# EAGLE library part EAGLELIBRARY_WUERTH_ELEKTRONIK_EISOS_REV16A_WE-TVS_824013 (library VGA_sound)
TVS Diode High Speed Series Characteristics Low clamping voltage Sturdy design Very low capacitance Flow Thru Design for a simple layout Rail to Rail protection Epoxy flame resistant UL94 V-0 RoHS, REACH and free of halogens Applications Very fast data lines USB 2.0 Ethernet PoE VGA Sim Cards Keypads ESD protection in accordance with EN 61000-4-2,  8 kV contact discharge  15 kV air discharge <http://katalog.we-online.de/media/images/eisos/VarTVS_highspeed_pf2.jpg.jpg> Details see: http://katalog.we-online.de/en/pbs/WE-TVS_High_Speed/824001? Updated by Dan Xu 2014-07-11 2014 (C) Wurth Elektronik
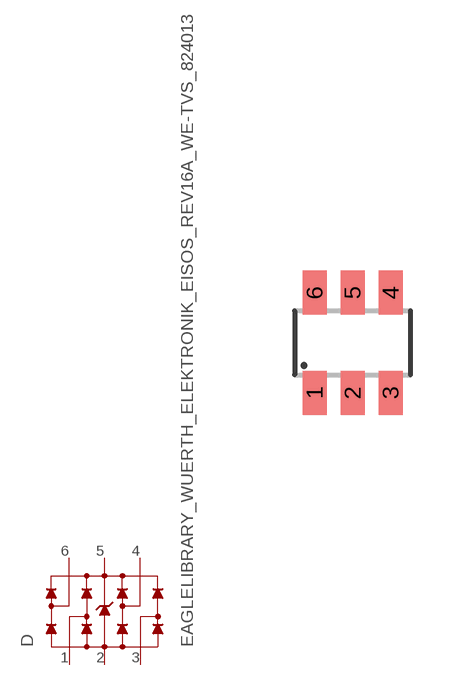
[diagram p1: symbol with the pads of EAGLELIBRARY_WUERTH_ELEKTRONIK_EISOS_REV16A_WE-TVS_SOT23-6L; footprint EAGLELIBRARY_WUERTH_ELEKTRONIK_EISOS_REV16A_WE-TVS_SOT23-6L]

Designator prefix D

## EAGLELIBRARY_WUERTH_ELEKTRONIK_EISOS_REV16A_WE-TVS_824013  [EAGLELIBRARY_WUERTH_ELEKTRONIK_EISOS_REV16A_WE-TVS_SOT23-6L]
1  1  pas
2  GND  pwr
3  2  pas
4  3  pas
5  VDD  pwr
6  4  pas

## Footprint EAGLELIBRARY_WUERTH_ELEKTRONIK_EISOS_REV16A_WE-TVS_SOT23-6L (pad centres in mm)
TVS Diode Array WE-TVS
smd 0.6 x 1.1: 1 -0.95,-1.25; 2 0,-1.25; 3 0.95,-1.25; 4 0.95,1.25; 5 0,1.25; 6 -0.95,1.25